# Altium footprint library CDRH6.PcbLib: 1 footprints
Each footprint in its own frame and in the unit in brackets; x right, y up, seen from the top. Pads: shape width x height; smd on the part's side, far side on the other; paste and mask are expansions set on the pad; w line width, h text height; cw(c..) or ccw(c..) is an arc to the next point about the centre after c.
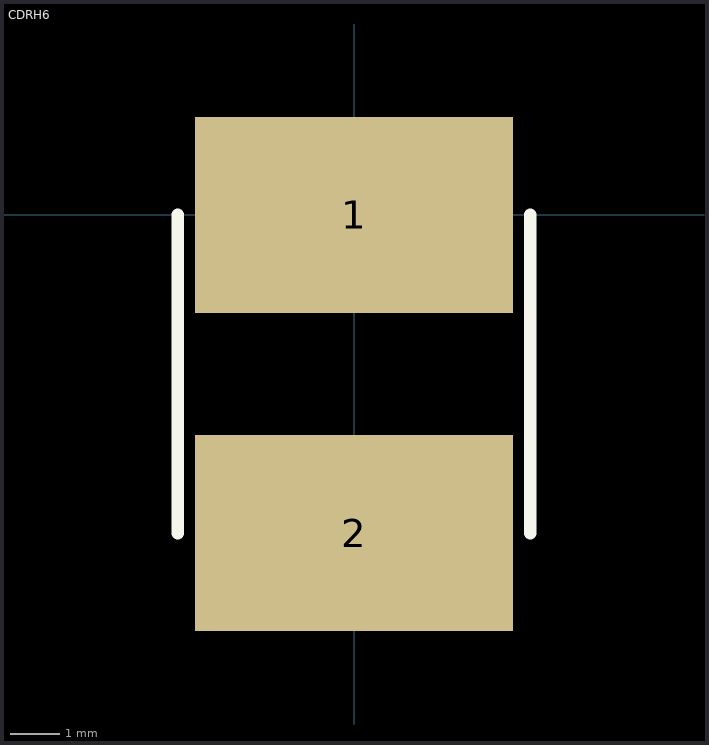
[diagram p0: the footprint, top view; thin cyan lines are the x and y axes]

## CDRH6 [mm]
pads (2):
  rect 6.5x4 smd: 1(0,0) 2(0,-6.5)
TopOverlay:
  lines w0.254: -3.6,-6.5 -3.6,0 ; 3.6,-6.5 3.6,0
Mechanical4:
  text ".100" at 0,0 h0.03